# Altium schematic symbol library SPB_Misc.SchLib: 34 symbols
Pins are listed as number, name and electrical type; pins without a type are passive.

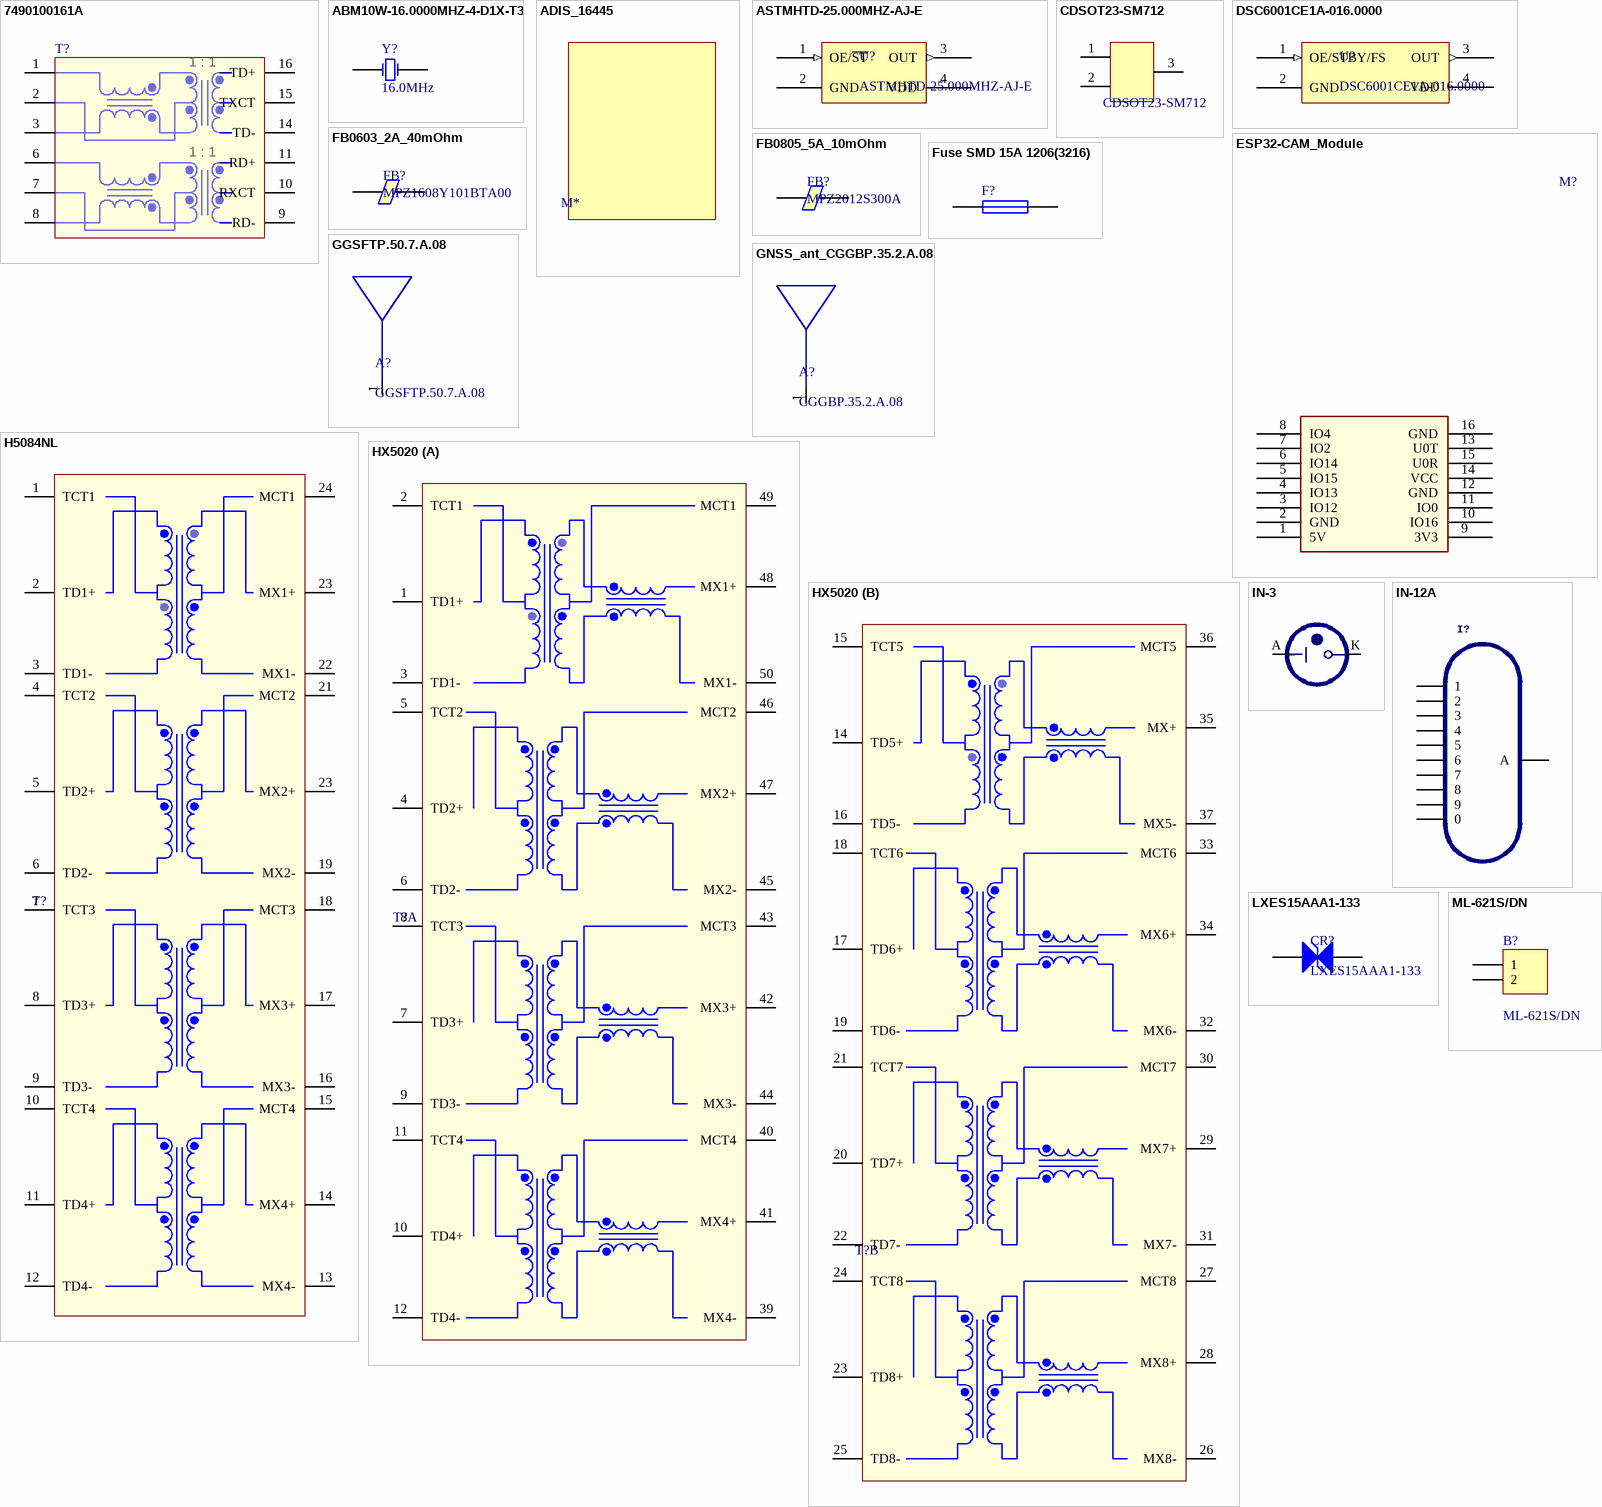
[diagram p0: symbols 7490100161A to ML-621S/DN]

## 7490100161A
designator T?
WE-LAN LAN Transformer, 10/100 Base-T; Manufacturer part number: 7490100161A; Mouser part #: 710-7490100161A
footprint 7490100161A
pins: 1, 2, 3, 6, 7, 8, 9 RD-, 10 RXCT, 11 RD+, 14 TD-, 15 TXCT, 16 TD+
text: 1 : 1

## ABM10W-16.0000MHZ-4-D1X-T3
designator Y?, comment 16.0MHz
Crystals 16MHz 4pF -40C +85C 10ppm; Manufacturer Part Number: ABM10W-16.0000MHZ-4-D1X-T3; Digi-Key Part Number: 535-13682-1-ND; Mouser Part #: 815-10W16-4D1XT; Value: 16.0MHz
footprint ABM10W
pins: 1 OSC1, 3 OSC2

## ADIS_16445
designator M*

## ASTMHTD-25.000MHZ-AJ-E
designator U?
Manufacturer Part Number: ASTMHTD-25.000MHZ-AJ-E-T; DigiKey Part Number: ASTMHTD-25.000MHZ-AJ-E-T-ND; Mouser Part #: 815-ASTMHTD25AJE
footprint ASTMHTD
pins: 1 OE/~{ST} (in), 2 GND (power), 3 OUT (out), 4 VDD (power)

## CDSOT23-SM712
designator U?
Surface Mount TVS Diode; Mouser Part #: 652-CDSOT23-SM712; Digi-Key Part Number: CDSOT23-SM712DKR-ND
footprint SOT95P245X110-3N (SOT23, 3-Leads, Body 2.90x2.45mm, Pitch 0.95mm, IPC Medium Density)
pins: 1, 2, 3

## DSC6001CE1A-016.0000
designator U?
Standard Clock Oscillators MEMS Oscillator, Ultra Low Power, LVCMOS, -20C-70C, 50ppm, 3.2x2.5mm; Mouser Part #: 579-001CE1A-016.0000; Manufacturer Part Number: DSC6001CE1A-016.0000
footprint DFN210P320X90-4N (DFN, 4-Leads, Body 2,50x3,20mm, Pitch 2,10mm, IPC Medium Density)
pins: 1 OE/STBY/FS (in), 2 GND (power), 3 OUT (out), 4 VDD (power)

## ESP32-CAM_Module
designator M?  (value not drawn)
Esp-32S; Datasheet: https://espressif.com/sites/default/files/documentation/esp_wroom_32_datasheet_en.pdf
footprint ESP32-CAM (ESP32-CAM module)
pins: 1 5V (power), 2 GND (power), 3 IO12 (power), 4 IO13, 5 IO15, 6 IO14, 7 IO2, 8 IO4, 9 3V3, 10 IO16, 11 IO0, 12 GND, 13 U0T, 14 VCC, 15 U0R (power), 16 GND

## FB0603_2A_40mOhm
designator FB?, comment MPZ1608Y101BTA00
Manufacturer Part Number: MPZ1608Y101BTA00; Digi-Key Part Number: 445-2984-1-ND; Mouser Part #: 810-MPZ1608Y101BTA00
footprint 1608[0603] (Chip Capacitor, Body 1.6x0.8mm, IPC High Density)
pins: 1, 2

## FB0805_5A_10mOhm
designator FB?, comment MPZ2012S300A
Manufacturer Part Number: MPZ2012S300A; Digi-Key Part Number: 445-172906-1-ND; Mouser Part #: 810-MPZ2012S300A
footprint 6-0805_L (Chip Resistor, Body 2.0x1.2mm, IPC High Density)
pins: 1, 2 1

## Fuse SMD 15A 1206(3216)
designator F?, comment 15A  (value not drawn)
SMD Fuse 15A 1206(3216); Manufacturer Part Number: 3413.0330.22; Mouser Part #: 693-3413.0330.22; Digi-key Part Number: 486-1688-1-ND
footprint C1206 (Chip Capacitor, Body 3.2x1.6mm, IPC High Density)
pins: 1, 2

## GGSFTP.50.7.A.08
designator A?
Antennas GPS/GLONASS/Galileo GPS L2 RL -10dB; Manufacturer Part Number: GGSFTP.50.7.A.08; Mouser Part #: 960-GGSFTP507A08; Digi-Key Part Number: 931-1601-ND
footprint GGSFTP.50.7.A.08 (Antennas GPS/GLONASS/Galilio GPS L2 RL -10dB)
pins: 1

## GNSS_ant_CGGBP.35.2.A.08
designator A?, comment CGGBP.35.2.A.08
Antennas CGGBP.35.2.A.08 GPS/GLONASS/GALILEO/BeiDou L1 35*35*2mm Embedded Patch Antenna; Manufacturer Part Number: CGGBP.35.2.A.08; Mouser Part #: 960-CGGBP.35.2.A.08
footprint CGGBP.35.2.A.08 (GPS/GLONASS/GALILEO/BeiDou  L1 Embedded Patch Antenna 35x35x2mm)
pins: 1

## H5084NL
designator T?
Signal Transformers 1000BaseT SMD NonPoE 350uH 1-Port; Manufacturer part number: H5084NL; Mouser part #: 673-H5084NL; Supplier 1: Digi-Key; Supplier 2: Mouser; Supplier part number 2: 673-H5084NL
footprint 7490100161A
pins: 1 TCT1, 2 TD1+, 3 TD1-, 4 TCT2, 5 TD2+, 6 TD2-, 7 TCT3, 8 TD3+, 9 TD3-, 10 TCT4, 11 TD4+, 12 TD4-, 13 MX4-, 14 MX4+, 15 MCT4, 16 MX3-, 17 MX3+, 18 MCT3, 19 MX2-, 21 MCT2, 22 MX1-, 23 MX1+, 23 MX2+, 24 MCT1

## HX5020
designator T?
LAN 1000 Base-T Pulse Transformer 1CT:1CT Surface Mount; Manufacturer part number: HX5020; Supplier 1: Digi-Key; Supplier 2: Mouser; Supplier part number 1: 553-1198-ND
footprint HX5020 (LAN 1000 Base-T Pulse Transformer 1CT:1CT Surface Mount)
part A pins: 1 TD1+, 2 TCT1, 3 TD1-, 4 TD2+, 5 TCT2, 6 TD2-, 7 TD3+, 8 TCT3, 9 TD3-, 10 TD4+, 11 TCT4, 12 TD4-, 39 MX4-, 40 MCT4, 41 MX4+, 42 MX3+, 43 MCT3, 44 MX3-, 45 MX2-, 46 MCT2, 47 MX2+, 48 MX1+, 49 MCT1, 50 MX1-
part B pins: 14 TD5+, 15 TCT5, 16 TD5-, 17 TD6+, 18 TCT6, 19 TD6-, 20 TD7+, 21 TCT7, 22 TD7-, 23 TD8+, 24 TCT8, 25 TD8-, 26 MX8-, 27 MCT8, 28 MX8+, 29 MX7+, 30 MCT7, 31 MX7-, 32 MX6-, 33 MCT6, 34 MX6+, 35 MX+, 36 MCT5, 37 MX5-

## IN-3
designator I?  (value not drawn)
IN-3: nixie bulb; Manufacturer Part Number: IN-3
footprint IN-3
pins: A, K

## IN-12A
designator I?  (value not drawn)
IN-12A: medium numeric topview nixie tube; Manufacturer Part Number: IN-12A
footprint IN-12
pins: 0, 1, 2, 3, 4, 5, 6, 7, 8, 9, A

## LXES15AAA1-133
designator CR?
ESD Suppressors / TVS Diodes 15 VDC; Mouser Part #: 81-LXES15AAA1-133; Manufacturer Part Number: LXES15AAA1-133; Digi-Key Part Number: 490-13209-1-ND
footprint 0402 (Footprint not found)
pins: 1 A, 2 K

## ML-621S/DN
designator B?
Coin Cell Battery 3V 5.0 mAh RECHG 2PIN FLAT SMT-NO INS; Mouser Part #: 658-ML-621S/DN; Manufacturer Part Number: ML-621S/DN
footprint ML-621_throught_hole (Coin Cell Battery 3V 5.0 mAh RECHG 2PIN FLAT SMT-NO INS)
footprint ML-621 (Coin Cell Battery 3V 5.0 mAh RECHG 2PIN FLAT SMT-NO INS)
pins: 1, 2

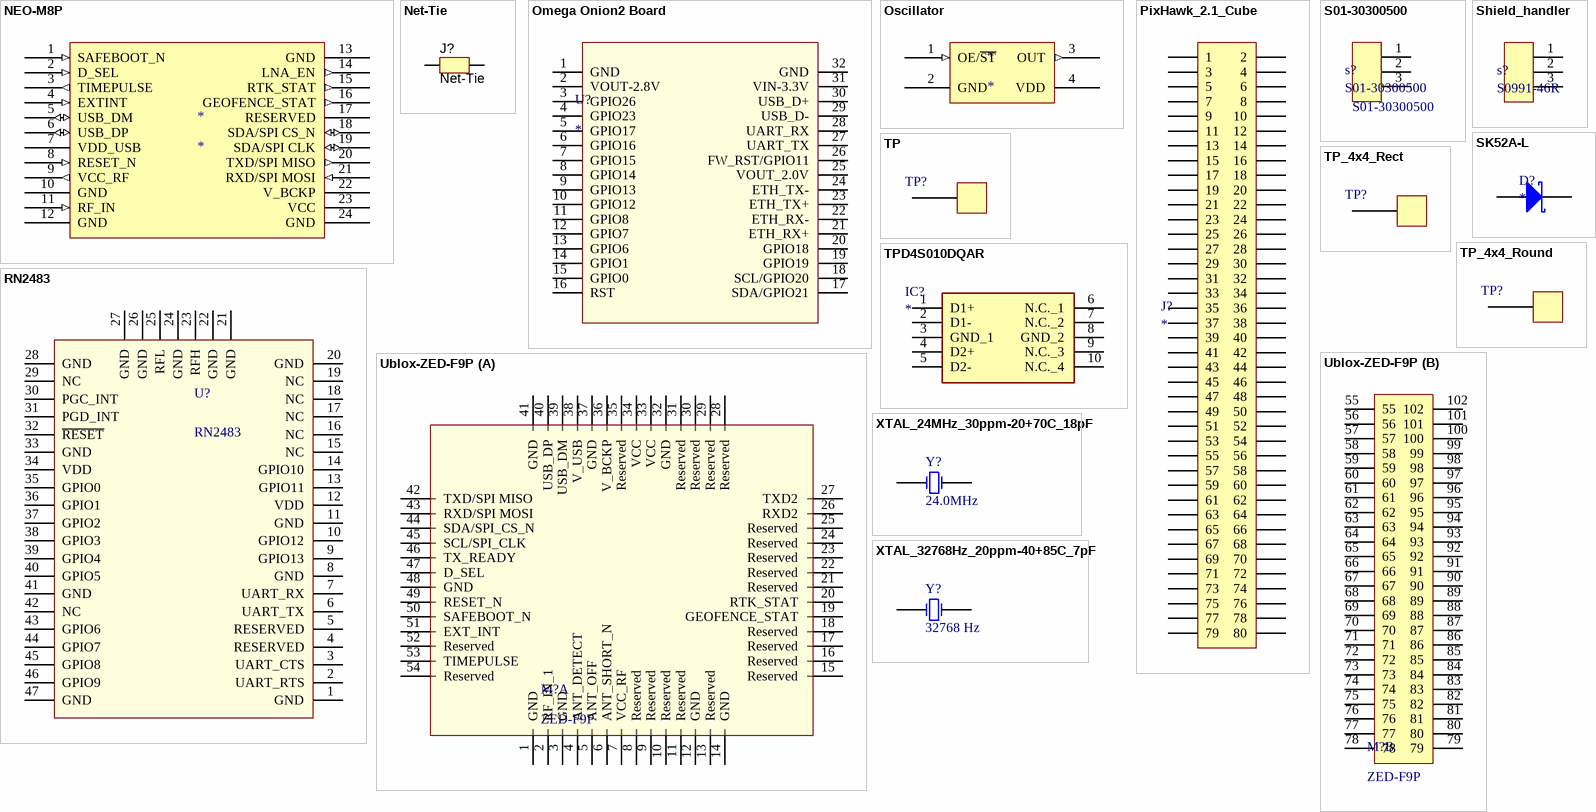
[diagram p1: symbols NEO-M8P to XTAL_32768Hz_20ppm-40+85C_7pF]

## NEO-M8P
designator *
footprint Ublox_M8 (GNSS Module Ublox_M8)
pins: 1 SAFEBOOT_N (in), 2 D_SEL (in), 3 TIMEPULSE (out), 4 EXTINT (in), 5 USB_DM (io), 6 USB_DP (io), 7 VDD_USB (power), 8 RESET_N (in), 9 VCC_RF (out), 10 GND (power), 11 RF_IN (in), 12 GND (power), 13 GND (power), 14 LNA_EN (out), 15 RTK_STAT (out), 16 GEOFENCE_STAT (out), 17 RESERVED, 18 SDA/SPI CS_N (io), 19 SDA/SPI CLK (io), 20 TXD/SPI MISO (out), 21 RXD/SPI MOSI (in), 22 V_BCKP (power), 23 VCC (power), 24 GND (power)

## Net-Tie
designator J?  (net tie, no BOM)
Single point connection between nets.; SymbolCreator: codlsc; SymbolVersion: 2009-07-01; MountType: SMT; Publisher: Texas Instruments; LatestRevisionDate: 2013-05-15; LatestRevisionNote: Added Alternate PartNumber and Alternate Manufacturer parameters to appropriate components.
footprint Net-Tie_10mil (10mil net tie, no solder mask opening, no solder paste)
footprint NetTie_1206 (1206 pads tied by 10mil copper trace which can be cut.  Part can be placed on pads.)
footprint Net-Tie_0805_HV
footprint NetTie_1206_NoOverlay (1206 pads tied by 10mil copper trace which can be cut.  Part can be placed on pads.)
footprint Net-Tie_0805_HV_NoOverlay (0805_HV pads tied by 10mil copper trace which can be cut.  An 0805 part can be placed on pads.)
footprint Net-Tie_10milWide_30milLong
footprint Net-Tie_20milWide_60milLong
pins: 1, 2

## Omega Onion2 Board
designator U?
footprint Onion Omega2 (Onion Omega2 MIPS Single board computer)
pins: 1 GND, 2 VOUT-2.8V, 3 GPIO26, 4 GPIO23, 5 GPIO17, 6 GPIO16, 7 GPIO15, 8 GPIO14, 9 GPIO13, 10 GPIO12, 11 GPIO8, 12 GPIO7, 13 GPIO6, 14 GPIO1, 15 GPIO0, 16 RST, 17 SDA/GPIO21, 18 SCL/GPIO20, 19 GPIO19, 20 GPIO18, 21 ETH_RX+, 22 ETH_RX-, 23 ETH_TX+, 24 ETH_TX-, 25 VOUT_2.0V, 26 FW_RST/GPIO11, 27 UART_TX, 28 UART_RX, 29 USB_D-, 30 USB_D+, 31 VIN-3.3V, 32 GND

## Oscillator
designator *
footprint ASTMHTD
pins: 1 OE/~{ST} (in), 2 GND (power), 3 OUT (out), 4 VDD (power)

## PixHawk_2.1_Cube
designator J?
footprint PIXHawk_2.1_Cube
pins: 1, 2, 3, 4, 5, 6, 7, 8, 9, 10, 11, 12, 13, 14, 15, 16, 17, 18, 19, 20, 21, 22, 23, 24, 25, 26, 27, 28, 29, 30, 31, 32, 33, 34, 35, 36, 37, 38, 39, 40, 41, 42, 43, 44, 45, 46, 47, 48, 49, 50, 51, 52, 53, 54, 55, 56, 57, 58, 59, 60, 61, 62, 63, 64, 65, 66, 67, 68, 69, 70, 71, 72, 73, 74, 75, 76, 77, 78, 79, 80

## RN2483
designator U?
Low-Power Long Range LoRa® Technology  Transceiver Module; Value: RN2483
footprint RN2483 (Low-Power Long Range LoRa® Technology  Transceiver Module)
pins: 1 GND, 2 UART_RTS, 3 UART_CTS, 4 RESERVED, 5 RESERVED, 6 UART_TX, 7 UART_RX, 8 GND, 9 GPIO13, 10 GPIO12, 11 GND, 12 VDD, 13 GPIO11, 14 GPIO10, 15 NC, 16 NC, 17 NC, 18 NC, 19 NC, 20 GND, 21 GND, 22 GND, 23 RFH, 24 GND, 25 RFL, 26 GND, 27 GND, 28 GND, 29 NC, 30 PGC_INT, 31 PGD_INT, 32 ~{RESET}, 33 GND, 34 VDD, 35 GPIO0, 36 GPIO1, 37 GPIO2, 38 GPIO3, 39 GPIO4, 40 GPIO5, 41 GND, 42 NC, 43 GPIO6, 44 GPIO7, 45 GPIO8, 46 GPIO9, 47 GND

## S01-30300500
designator s?
RF Shield CAN 1.201" (30.50mm) X 1.181" (30.00mm) Non-Vented Surface Mount; Mouser Part #: 855-S01-30300500; Digi-Key Part Number: 952-2641-ND; Manufacturer Part Number: S01-30300500
footprint S01-30300500 Shield (RF Shield CAN 1.201" (30.50mm) X 1.181" (30.00mm) Non-Vented Surface Mount)
pins: 1, 2, 3

## Shield_handler
designator s?, comment S0991-46R
Harwin 6.5mm length EMI shield handler; Manufacturer Part Number: S0991-46R; Mouser Part #: 855-S0991-46R
footprint Shield_socket_S0961-46R (EMI Gaskets, Sheets & Absorbers  Length:6.5 mm)
pins: 1, 2, 3

## SK52A-L
designator D?
5 Amp Schottky  Rectifier
pins: 1 A, 2 K

## TP
designator TP?  (value not drawn)  (no BOM)
footprint TESTPOINT
pins: 1 VIN

## TP_4x4_Rect
designator TP?  (value not drawn)  (no BOM)
Rectangular Test Point
footprint TESTPOINT_RECTANGULAR_4x4
pins: 1 VIN

## TP_4x4_Round
designator TP?  (value not drawn)  (no BOM)
Rounded Test Point
footprint TESTPOINT_Round_4x4
pins: 1 VIN

## TPD4S010DQAR
designator IC?
Integrated Circuit; Manufacturer_Name: Texas Instruments; Manufacturer_Part_Number: TPD4S010DQAR; Datasheet Link: http://www.ti.com/lit/gpn/tpd4s010; Mouser Part Number: 595-TPD4S010DQAR; Mouser Price/Stock: https://www.mouser.com/Search/Refine.aspx?Keyword=595-TPD4S010DQAR; RS Part Number: 8120219P; RS Price/Stock: http://uk.rs-online.com/web/p/products/8120219P
footprint DQA(R-PUSON-N10)
pins: 1 D1+, 2 D1-, 3 GND_1, 4 D2+, 5 D2-, 6 N.C._1, 7 N.C._2, 8 GND_2, 9 N.C._3, 10 N.C._4

## Ublox-ZED-F9P
designator M?, comment ZED-F9P
u-blox F9 high precision GNSS module
footprint ZED-F9P
part A pins: 1 GND, 2 RF_IN_1, 3 GND, 4 ANT_DETECT, 5 ANT_OFF, 6 ANT_SHORT_N, 7 VCC_RF, 8 Reserved, 9 Reserved, 10 Reserved, 11 Reserved, 12 GND, 13 Reserved, 14 GND, 15 Reserved, 16 Reserved, 17 Reserved, 18 Reserved, 19 GEOFENCE_STAT, 20 RTK_STAT, 21 Reserved, 22 Reserved, 23 Reserved, 24 Reserved, 25 Reserved, 26 RXD2, 27 TXD2, 28 Reserved, 29 Reserved, 30 Reserved, 31 Reserved, 32 GND, 33 VCC, 34 VCC, 35 Reserved, 36 V_BCKP, 37 GND, 38 V_USB, 39 USB_DM, 40 USB_DP, 41 GND, 42 TXD/SPI MISO, 43 RXD/SPI MOSI, 44 SDA/SPI_CS_N, 45 SCL/SPI_CLK, 46 TX_READY, 47 D_SEL, 48 GND, 49 RESET_N, 50 SAFEBOOT_N, 51 EXT_INT, 52 Reserved, 53 TIMEPULSE, 54 Reserved
part B pins: 55, 56, 57, 58, 59, 60, 61, 62, 63, 64, 65, 66, 67, 68, 69, 70, 71, 72, 73, 74, 75, 76, 77, 78, 79, 80, 81, 82, 83, 84, 85, 86, 87, 88, 89, 90, 91, 92, 93, 94, 95, 96, 97, 98, 99, 100, 101, 102

## XTAL_24MHz_30ppm-20+70C_18pF
designator Y?, comment 24.0MHz
Crystal Oscillator; Manufacturer Part Number: 7A-24.000MAAJ-T; Digi-Key Part Number: 887-1090-1-ND; Mouser Part #: 717-7A-24.000MAAJ-T; Value: 24.0MHz
footprint XTAL_5mmX3.2mm
pins: 1 OSC1, 2 OSC2

## XTAL_32768Hz_20ppm-40+85C_7pF
designator Y?, comment 32768 Hz
Crystal Oscillator; Manufacturer Part Number: ABS07-32.768KHZ-7-T; Digi-Key Part Number: 535-9543-1-ND; Mouser Part #: 815-ABS07-32.768K7T; Value: 32768 Hz
footprint XTAL_3.2mmX1.5mm
pins: 1 OSC1, 2 OSC2